# Altium integrated library TI Power Management Linear Regulator Single Channel LDO (0-350mA).IntLib: 1648 symbols (part 54 of 66)
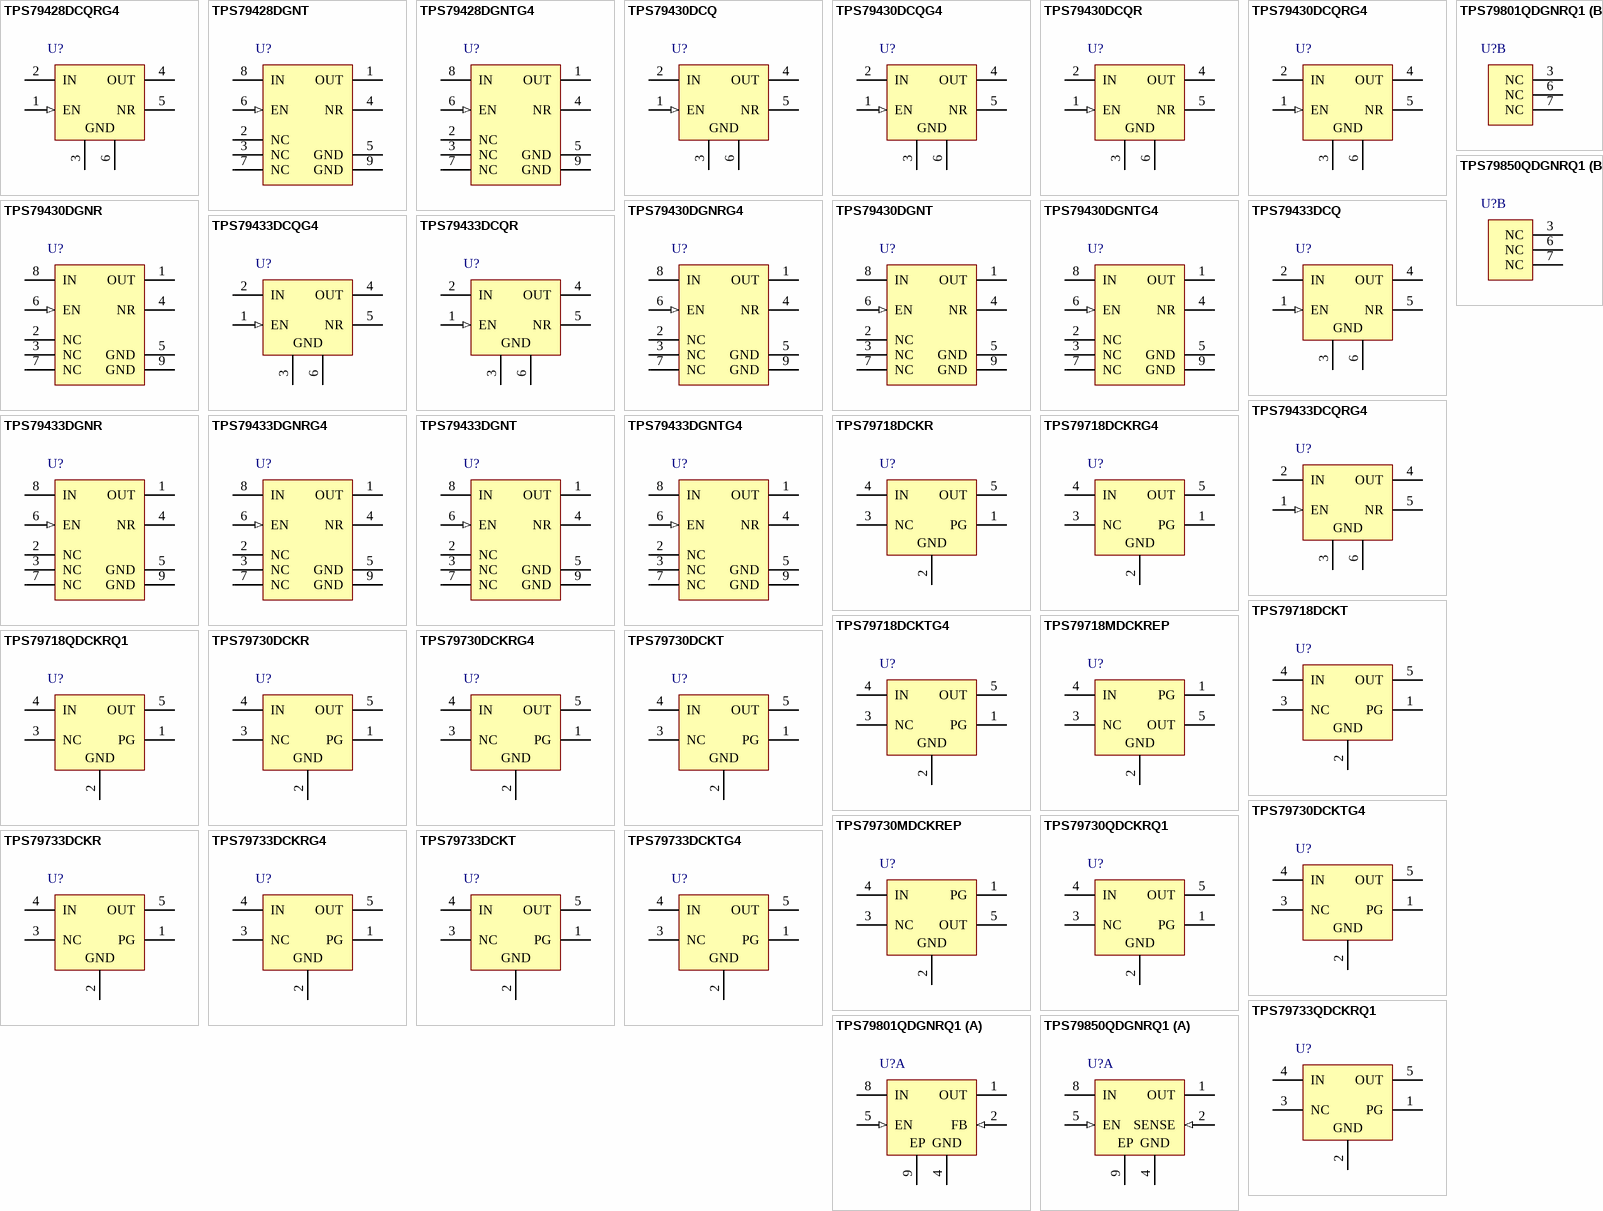
[diagram p95: symbols TPS79428DCQRG4 to TPS79850QDGNRQ1]

## TPS79430DCQR
designator U?
Single Output High PSRR LDO, 250 mA, Fixed 3 V Output, 2.7 to 5.5 V Input, 6-pin SOT-223 (DCQ), -40 to 85 degC, Green (RoHS & no Sb/Br); Manufacturer: Texas Instruments; PartNumber: TPS79430DCQR; Accuracy(%): 3; Iout(Max)(A): 0.25; Iq(Typ)(mA): 0.26; SubFamily: Single Channel LDO; Vdo(Typ)(mV): 155; Vin(Max)(V): 5.5; Vin(Min)(V): 2.7; DatasheetVersion: SLVS349E; PackageVersion: 4202109/D; PackageReference: DCQ6; PackageDescription: 6-Pin Plastic Small Outline, Body 3.5 x 6.5 mm, Pitch 1.27 mm; Supplier 1: Digi-Key; Supplier Part Number 1: 296-14435-2-ND; Supplier 2: Digi-Key; Supplier Part Number 2: 296-14435-1-ND; Supplier 3: Digi-Key; Supplier Part Number 3: 296-14435-6-ND; Supplier 4: Mouser; Supplier Part Number 4: 595-TPS79430DCQR; Eco-Plan: Green (RoHS & no Sb/Br); Fixed Output Options(V): 3; Vout Adj(Max)(V): 3; Vout Adj(Min)(V): 3; Mounting Technology: Surface Mount; ComponentLink1Description: Manufacturer URL; ComponentLink1URL: http://www.ti.com/; ComponentLink2Description: Datasheet; ComponentLink2URL: http://www.ti.com/general/docs/lit/getliterature.tsp?genericPartNumber=TPS79430&fileType=pdf; ComponentLink3Description: Package Specification; ComponentLink3URL: http://www.ti.com/litv/pdf/mpds098c
footprint TI-DCQ6_N (SOT223, 6-Leads, Body 6.5x3.5mm, Pitch 1.27mm, IPC Medium Density)
footprint TI-DCQ6_L (SOT223, 6-Leads, Body 6.5x3.5mm, Pitch 1.27mm, IPC High Density)
footprint TI-DCQ6_M (SOT223, 6-Leads, Body 6.5x3.5mm, Pitch 1.27mm, IPC Low Density)
pins: 1 EN (in) "The EN terminal is an input that enables or shuts down the device. When EN is a logic high, the device is enabled. When the device is a logic low, the device is in shutdown mode.", 2 IN (power) "Unregulated input to the device.", 3 GND (power) "Regulator ground", 4 OUT (power) "Regulator output", 5 NR "Connecting an external capacitor to this pin bypasses noise generated by the internal bandgap, which improves power-supply rejection and reduces output noise.", 6 GND (power) "Regulator ground"

## TPS79430DCQRG4
designator U?
Single Output High PSRR LDO, 250 mA, Fixed 3 V Output, 2.7 to 5.5 V Input, 6-pin SOT-223 (DCQ), -40 to 85 degC, Green (RoHS & no Sb/Br); Manufacturer: Texas Instruments; PartNumber: TPS79430DCQRG4; Accuracy(%): 3; Iout(Max)(A): 0.25; Iq(Typ)(mA): 0.26; SubFamily: Single Channel LDO; Vdo(Typ)(mV): 155; Vin(Max)(V): 5.5; Vin(Min)(V): 2.7; DatasheetVersion: SLVS349E; PackageVersion: 4202109/D; PackageReference: DCQ6; PackageDescription: 6-Pin Plastic Small Outline, Body 3.5 x 6.5 mm, Pitch 1.27 mm; Supplier 1: Digi-Key; Supplier Part Number 1: TPS79430DCQRG4-ND; Supplier 2: Newark; Supplier Part Number 2: 34M0219; Supplier 3: Mouser; Supplier Part Number 3: 595-TPS79430DCQRG4; Eco-Plan: Green (RoHS & no Sb/Br); Fixed Output Options(V): 3; Vout Adj(Max)(V): 3; Vout Adj(Min)(V): 3; Mounting Technology: Surface Mount; ComponentLink1Description: Manufacturer URL; ComponentLink1URL: http://www.ti.com/; ComponentLink2Description: Datasheet; ComponentLink2URL: http://www.ti.com/general/docs/lit/getliterature.tsp?genericPartNumber=TPS79430&fileType=pdf; ComponentLink3Description: Package Specification; ComponentLink3URL: http://www.ti.com/litv/pdf/mpds098c
footprint TI-DCQ6_N (SOT223, 6-Leads, Body 6.5x3.5mm, Pitch 1.27mm, IPC Medium Density)
footprint TI-DCQ6_L (SOT223, 6-Leads, Body 6.5x3.5mm, Pitch 1.27mm, IPC High Density)
footprint TI-DCQ6_M (SOT223, 6-Leads, Body 6.5x3.5mm, Pitch 1.27mm, IPC Low Density)
pins: 1 EN (in) "The EN terminal is an input that enables or shuts down the device. When EN is a logic high, the device is enabled. When the device is a logic low, the device is in shutdown mode.", 2 IN (power) "Unregulated input to the device.", 3 GND (power) "Regulator ground", 4 OUT (power) "Regulator output", 5 NR "Connecting an external capacitor to this pin bypasses noise generated by the internal bandgap, which improves power-supply rejection and reduces output noise.", 6 GND (power) "Regulator ground"

## TPS79430DGNR
designator U?
Single Output High PSRR LDO, 250 mA, Fixed 3 V Output, 2.7 to 5.5 V Input, 8-pin MSOP (DGN), -40 to 85 degC, Green (RoHS & no Sb/Br); Manufacturer: Texas Instruments; PartNumber: TPS79430DGNR; Accuracy(%): 3; Iout(Max)(A): 0.25; Iq(Typ)(mA): 0.26; SubFamily: Single Channel LDO; Vdo(Typ)(mV): 155; Vin(Max)(V): 5.5; Vin(Min)(V): 2.7; DatasheetVersion: SLVS349E; PackageVersion: 4073271/F; PackageReference: DGN8-1760X1425TP; PackageDescription: 8-pin Plastic Small Outline, Body 3 x 3 mm, Pitch 0.65 mm; Supplier 1: Digi-Key; Supplier Part Number 1: 296-13529-2-ND; Supplier 2: Digi-Key; Supplier Part Number 2: 296-13529-1-ND; Supplier 3: Digi-Key; Supplier Part Number 3: 296-13529-6-ND; Supplier 4: Mouser; Supplier Part Number 4: 595-TPS79430DGNR; Eco-Plan: Green (RoHS & no Sb/Br); Fixed Output Options(V): 3; Vout Adj(Max)(V): 3; Vout Adj(Min)(V): 3; Mounting Technology: Surface Mount; Code_JEDEC: MO-187; ComponentLink1Description: Manufacturer URL; ComponentLink1URL: http://www.ti.com/; ComponentLink2Description: Datasheet; ComponentLink2URL: http://www.ti.com/general/docs/lit/getliterature.tsp?genericPartNumber=TPS79430&fileType=pdf; ComponentLink3Description: Package Specification; ComponentLink3URL: http://www.ti.com/litv/pdf/mpds046e
footprint TI-DGN8-1760X1425TP_N (SOIC, 8-Leads, Body 3x3mm, Pitch 0.65mm, Thermal Pad 1.76x1.425mm, IPC Medium Density)
footprint TI-DGN8-1760X1425TP_L (SOIC, 8-Leads, Body 3x3mm, Pitch 0.65mm, Thermal Pad 1.76x1.425mm, IPC High Density)
footprint TI-DGN8-1760X1425TP_M (SOIC, 8-Leads, Body 3x3mm, Pitch 0.65mm, Thermal Pad 1.76x1.425mm, IPC Low Density)
pins: 1 OUT (power) "Regulator output", 2 NC "No internal connection.", 3 NC "No internal connection.", 4 NR "Connecting an external capacitor to this pin bypasses noise generated by the internal bandgap, which improves power-supply rejection and reduces output noise.", 5 GND (power) "Regulator ground", 6 EN (in) "The EN terminal is an input that enables or shuts down the device. When EN is a logic high, the device is enabled. When the device is a logic low, the device is in shutdown mode.", 7 NC "No internal connection.", 8 IN (power) "Unregulated input to the device.", 9 GND (power) "Regulator ground"

## TPS79430DGNRG4
designator U?
Single Output High PSRR LDO, 250 mA, Fixed 3 V Output, 2.7 to 5.5 V Input, 8-pin MSOP (DGN), -40 to 85 degC, Green (RoHS & no Sb/Br); Manufacturer: Texas Instruments; PartNumber: TPS79430DGNRG4; Accuracy(%): 3; Iout(Max)(A): 0.25; Iq(Typ)(mA): 0.26; SubFamily: Single Channel LDO; Vdo(Typ)(mV): 155; Vin(Max)(V): 5.5; Vin(Min)(V): 2.7; DatasheetVersion: SLVS349E; PackageVersion: 4073271/F; PackageReference: DGN8-1760X1425TP; PackageDescription: 8-pin Plastic Small Outline, Body 3 x 3 mm, Pitch 0.65 mm; Supplier 1: Digi-Key; Supplier Part Number 1: TPS79430DGNRG4-ND; Supplier 2: Mouser; Supplier Part Number 2: 595-TPS79430DGNRG4; Eco-Plan: Green (RoHS & no Sb/Br); Fixed Output Options(V): 3; Vout Adj(Max)(V): 3; Vout Adj(Min)(V): 3; Mounting Technology: Surface Mount; Code_JEDEC: MO-187; ComponentLink1Description: Manufacturer URL; ComponentLink1URL: http://www.ti.com/; ComponentLink2Description: Datasheet; ComponentLink2URL: http://www.ti.com/general/docs/lit/getliterature.tsp?genericPartNumber=TPS79430&fileType=pdf; ComponentLink3Description: Package Specification; ComponentLink3URL: http://www.ti.com/litv/pdf/mpds046e
footprint TI-DGN8-1760X1425TP_N (SOIC, 8-Leads, Body 3x3mm, Pitch 0.65mm, Thermal Pad 1.76x1.425mm, IPC Medium Density)
footprint TI-DGN8-1760X1425TP_L (SOIC, 8-Leads, Body 3x3mm, Pitch 0.65mm, Thermal Pad 1.76x1.425mm, IPC High Density)
footprint TI-DGN8-1760X1425TP_M (SOIC, 8-Leads, Body 3x3mm, Pitch 0.65mm, Thermal Pad 1.76x1.425mm, IPC Low Density)
pins: 1 OUT (power) "Regulator output", 2 NC "No internal connection.", 3 NC "No internal connection.", 4 NR "Connecting an external capacitor to this pin bypasses noise generated by the internal bandgap, which improves power-supply rejection and reduces output noise.", 5 GND (power) "Regulator ground", 6 EN (in) "The EN terminal is an input that enables or shuts down the device. When EN is a logic high, the device is enabled. When the device is a logic low, the device is in shutdown mode.", 7 NC "No internal connection.", 8 IN (power) "Unregulated input to the device.", 9 GND (power) "Regulator ground"

## TPS79430DGNT
designator U?
Single Output High PSRR LDO, 250 mA, Fixed 3 V Output, 2.7 to 5.5 V Input, 8-pin MSOP (DGN), -40 to 85 degC, Green (RoHS & no Sb/Br); Manufacturer: Texas Instruments; PartNumber: TPS79430DGNT; Accuracy(%): 3; Iout(Max)(A): 0.25; Iq(Typ)(mA): 0.26; SubFamily: Single Channel LDO; Vdo(Typ)(mV): 155; Vin(Max)(V): 5.5; Vin(Min)(V): 2.7; DatasheetVersion: SLVS349E; PackageVersion: 4073271/F; PackageReference: DGN8-1760X1425TP; PackageDescription: 8-pin Plastic Small Outline, Body 3 x 3 mm, Pitch 0.65 mm; Supplier 1: Digi-Key; Supplier Part Number 1: 296-14436-2-ND; Supplier 2: Digi-Key; Supplier Part Number 2: 296-14436-1-ND; Supplier 3: Digi-Key; Supplier Part Number 3: 296-14436-6-ND; Supplier 4: Mouser; Supplier Part Number 4: 595-TPS79430DGNT; Eco-Plan: Green (RoHS & no Sb/Br); Fixed Output Options(V): 3; Vout Adj(Max)(V): 3; Vout Adj(Min)(V): 3; Mounting Technology: Surface Mount; Code_JEDEC: MO-187; ComponentLink1Description: Manufacturer URL; ComponentLink1URL: http://www.ti.com/; ComponentLink2Description: Datasheet; ComponentLink2URL: http://www.ti.com/general/docs/lit/getliterature.tsp?genericPartNumber=TPS79430&fileType=pdf; ComponentLink3Description: Package Specification; ComponentLink3URL: http://www.ti.com/litv/pdf/mpds046e
footprint TI-DGN8-1760X1425TP_N (SOIC, 8-Leads, Body 3x3mm, Pitch 0.65mm, Thermal Pad 1.76x1.425mm, IPC Medium Density)
footprint TI-DGN8-1760X1425TP_L (SOIC, 8-Leads, Body 3x3mm, Pitch 0.65mm, Thermal Pad 1.76x1.425mm, IPC High Density)
footprint TI-DGN8-1760X1425TP_M (SOIC, 8-Leads, Body 3x3mm, Pitch 0.65mm, Thermal Pad 1.76x1.425mm, IPC Low Density)
pins: 1 OUT (power) "Regulator output", 2 NC "No internal connection.", 3 NC "No internal connection.", 4 NR "Connecting an external capacitor to this pin bypasses noise generated by the internal bandgap, which improves power-supply rejection and reduces output noise.", 5 GND (power) "Regulator ground", 6 EN (in) "The EN terminal is an input that enables or shuts down the device. When EN is a logic high, the device is enabled. When the device is a logic low, the device is in shutdown mode.", 7 NC "No internal connection.", 8 IN (power) "Unregulated input to the device.", 9 GND (power) "Regulator ground"

## TPS79430DGNTG4
designator U?
Single Output High PSRR LDO, 250 mA, Fixed 3 V Output, 2.7 to 5.5 V Input, 8-pin MSOP (DGN), -40 to 85 degC, Green (RoHS & no Sb/Br); Manufacturer: Texas Instruments; PartNumber: TPS79430DGNTG4; Accuracy(%): 3; Iout(Max)(A): 0.25; Iq(Typ)(mA): 0.26; SubFamily: Single Channel LDO; Vdo(Typ)(mV): 155; Vin(Max)(V): 5.5; Vin(Min)(V): 2.7; DatasheetVersion: SLVS349E; PackageVersion: 4073271/F; PackageReference: DGN8-1760X1425TP; PackageDescription: 8-pin Plastic Small Outline, Body 3 x 3 mm, Pitch 0.65 mm; Supplier 1: Digi-Key; Supplier Part Number 1: TPS79430DGNTG4-ND; Supplier 2: Mouser; Supplier Part Number 2: 595-TPS79430DGNTG4; Eco-Plan: Green (RoHS & no Sb/Br); Fixed Output Options(V): 3; Vout Adj(Max)(V): 3; Vout Adj(Min)(V): 3; Mounting Technology: Surface Mount; Code_JEDEC: MO-187; ComponentLink1Description: Manufacturer URL; ComponentLink1URL: http://www.ti.com/; ComponentLink2Description: Datasheet; ComponentLink2URL: http://www.ti.com/general/docs/lit/getliterature.tsp?genericPartNumber=TPS79430&fileType=pdf; ComponentLink3Description: Package Specification; ComponentLink3URL: http://www.ti.com/litv/pdf/mpds046e
footprint TI-DGN8-1760X1425TP_N (SOIC, 8-Leads, Body 3x3mm, Pitch 0.65mm, Thermal Pad 1.76x1.425mm, IPC Medium Density)
footprint TI-DGN8-1760X1425TP_L (SOIC, 8-Leads, Body 3x3mm, Pitch 0.65mm, Thermal Pad 1.76x1.425mm, IPC High Density)
footprint TI-DGN8-1760X1425TP_M (SOIC, 8-Leads, Body 3x3mm, Pitch 0.65mm, Thermal Pad 1.76x1.425mm, IPC Low Density)
pins: 1 OUT (power) "Regulator output", 2 NC "No internal connection.", 3 NC "No internal connection.", 4 NR "Connecting an external capacitor to this pin bypasses noise generated by the internal bandgap, which improves power-supply rejection and reduces output noise.", 5 GND (power) "Regulator ground", 6 EN (in) "The EN terminal is an input that enables or shuts down the device. When EN is a logic high, the device is enabled. When the device is a logic low, the device is in shutdown mode.", 7 NC "No internal connection.", 8 IN (power) "Unregulated input to the device.", 9 GND (power) "Regulator ground"

## TPS79433DCQ
designator U?
Single Output High PSRR LDO, 250 mA, Fixed 3.3 V Output, 2.7 to 5.5 V Input, 6-pin SOT-223 (DCQ), -40 to 85 degC, Green (RoHS & no Sb/Br); Manufacturer: Texas Instruments; PartNumber: TPS79433DCQ; Accuracy(%): 3; Iout(Max)(A): 0.25; Iq(Typ)(mA): 0.26; Rating: Catalog; SubFamily: Single Channel LDO; Vdo(Typ)(mV): 145; Vin(Max)(V): 5.5; Vin(Min)(V): 2.7; Vout Adj(Max)(V): 3.3; DatasheetVersion: SLVS349E; PackageVersion: 4202109/D; PackageReference: DCQ6; PackageDescription: 6-Pin Plastic Small Outline, Body 3.5 x 6.5 mm, Pitch 1.27 mm; Supplier 1: Digi-Key; Supplier Part Number 1: 296-34653-5-ND; Supplier 2: Newark; Supplier Part Number 2: 32H6601; Supplier 3: Mouser; Supplier Part Number 3: 595-TPS79433DCQ; Eco-Plan: Green (RoHS & no Sb/Br); Vout Adj(Min)(V): 3.3; Mounting Technology: Surface Mount; ComponentLink1Description: Manufacturer URL; ComponentLink1URL: http://www.ti.com/; ComponentLink2Description: Datasheet; ComponentLink2URL: http://www.ti.com/general/docs/lit/getliterature.tsp?genericPartNumber=TPS79433&fileType=pdf; ComponentLink3Description: Package Specification; ComponentLink3URL: http://www.ti.com/litv/pdf/mpds098c
footprint TI-DCQ6_N (SOT223, 6-Leads, Body 6.5x3.5mm, Pitch 1.27mm, IPC Medium Density)
footprint TI-DCQ6_L (SOT223, 6-Leads, Body 6.5x3.5mm, Pitch 1.27mm, IPC High Density)
footprint TI-DCQ6_M (SOT223, 6-Leads, Body 6.5x3.5mm, Pitch 1.27mm, IPC Low Density)
pins: 1 EN (in) "The EN terminal is an input that enables or shuts down the device. When EN is a logic high, the device is enabled. When the device is a logic low, the device is in shutdown mode.", 2 IN (power) "Unregulated input to the device.", 3 GND (power) "Regulator ground", 4 OUT (power) "Regulator output", 5 NR "Connecting an external capacitor to this pin bypasses noise generated by the internal bandgap, which improves power-supply rejection and reduces output noise.", 6 GND (power) "Regulator ground"

## TPS79433DCQG4
designator U?
Single Output High PSRR LDO, 250 mA, Fixed 3.3 V Output, 2.7 to 5.5 V Input, 6-pin SOT-223 (DCQ), -40 to 85 degC, Green (RoHS & no Sb/Br); Manufacturer: Texas Instruments; PartNumber: TPS79433DCQG4; Accuracy(%): 3; Iout(Max)(A): 0.25; Iq(Typ)(mA): 0.26; Rating: Catalog; SubFamily: Single Channel LDO; Vdo(Typ)(mV): 145; Vin(Max)(V): 5.5; Vin(Min)(V): 2.7; Vout Adj(Max)(V): 3.3; DatasheetVersion: SLVS349E; PackageVersion: 4202109/D; PackageReference: DCQ6; PackageDescription: 6-Pin Plastic Small Outline, Body 3.5 x 6.5 mm, Pitch 1.27 mm; Supplier 1: Digi-Key; Supplier Part Number 1: TPS79433DCQG4-ND; Supplier 2: Mouser; Supplier Part Number 2: 595-TPS79433DCQG4; Eco-Plan: Green (RoHS & no Sb/Br); Vout Adj(Min)(V): 3.3; Mounting Technology: Surface Mount; ComponentLink1Description: Manufacturer URL; ComponentLink1URL: http://www.ti.com/; ComponentLink2Description: Datasheet; ComponentLink2URL: http://www.ti.com/general/docs/lit/getliterature.tsp?genericPartNumber=TPS79433&fileType=pdf; ComponentLink3Description: Package Specification; ComponentLink3URL: http://www.ti.com/litv/pdf/mpds098c
footprint TI-DCQ6_N (SOT223, 6-Leads, Body 6.5x3.5mm, Pitch 1.27mm, IPC Medium Density)
footprint TI-DCQ6_L (SOT223, 6-Leads, Body 6.5x3.5mm, Pitch 1.27mm, IPC High Density)
footprint TI-DCQ6_M (SOT223, 6-Leads, Body 6.5x3.5mm, Pitch 1.27mm, IPC Low Density)
pins: 1 EN (in) "The EN terminal is an input that enables or shuts down the device. When EN is a logic high, the device is enabled. When the device is a logic low, the device is in shutdown mode.", 2 IN (power) "Unregulated input to the device.", 3 GND (power) "Regulator ground", 4 OUT (power) "Regulator output", 5 NR "Connecting an external capacitor to this pin bypasses noise generated by the internal bandgap, which improves power-supply rejection and reduces output noise.", 6 GND (power) "Regulator ground"

## TPS79433DCQR
designator U?
Single Output High PSRR LDO, 250 mA, Fixed 3.3 V Output, 2.7 to 5.5 V Input, 6-pin SOT-223 (DCQ), -40 to 85 degC, Green (RoHS & no Sb/Br); Manufacturer: Texas Instruments; PartNumber: TPS79433DCQR; Accuracy(%): 3; Iout(Max)(A): 0.25; Iq(Typ)(mA): 0.26; Rating: Catalog; SubFamily: Single Channel LDO; Vdo(Typ)(mV): 145; Vin(Max)(V): 5.5; Vin(Min)(V): 2.7; Vout Adj(Max)(V): 3.3; DatasheetVersion: SLVS349E; PackageVersion: 4202109/D; PackageReference: DCQ6; PackageDescription: 6-Pin Plastic Small Outline, Body 3.5 x 6.5 mm, Pitch 1.27 mm; Supplier 1: Digi-Key; Supplier Part Number 1: 296-14437-2-ND; Supplier 2: Digi-Key; Supplier Part Number 2: 296-14437-1-ND; Supplier 3: Digi-Key; Supplier Part Number 3: 296-14437-6-ND; Supplier 4: Newark; Supplier Part Number 4: 32H6602; Supplier 5: Mouser; Supplier Part Number 5: 595-TPS79433DCQR; Eco-Plan: Green (RoHS & no Sb/Br); Vout Adj(Min)(V): 3.3; Mounting Technology: Surface Mount; ComponentLink1Description: Manufacturer URL; ComponentLink1URL: http://www.ti.com/; ComponentLink2Description: Datasheet; ComponentLink2URL: http://www.ti.com/general/docs/lit/getliterature.tsp?genericPartNumber=TPS79433&fileType=pdf; ComponentLink3Description: Package Specification; ComponentLink3URL: http://www.ti.com/litv/pdf/mpds098c
footprint TI-DCQ6_N (SOT223, 6-Leads, Body 6.5x3.5mm, Pitch 1.27mm, IPC Medium Density)
footprint TI-DCQ6_L (SOT223, 6-Leads, Body 6.5x3.5mm, Pitch 1.27mm, IPC High Density)
footprint TI-DCQ6_M (SOT223, 6-Leads, Body 6.5x3.5mm, Pitch 1.27mm, IPC Low Density)
pins: 1 EN (in) "The EN terminal is an input that enables or shuts down the device. When EN is a logic high, the device is enabled. When the device is a logic low, the device is in shutdown mode.", 2 IN (power) "Unregulated input to the device.", 3 GND (power) "Regulator ground", 4 OUT (power) "Regulator output", 5 NR "Connecting an external capacitor to this pin bypasses noise generated by the internal bandgap, which improves power-supply rejection and reduces output noise.", 6 GND (power) "Regulator ground"

## TPS79433DCQRG4
designator U?
Single Output High PSRR LDO, 250 mA, Fixed 3.3 V Output, 2.7 to 5.5 V Input, 6-pin SOT-223 (DCQ), -40 to 85 degC, Green (RoHS & no Sb/Br); Manufacturer: Texas Instruments; PartNumber: TPS79433DCQRG4; Accuracy(%): 3; Iout(Max)(A): 0.25; Iq(Typ)(mA): 0.26; Rating: Catalog; SubFamily: Single Channel LDO; Vdo(Typ)(mV): 145; Vin(Max)(V): 5.5; Vin(Min)(V): 2.7; Vout Adj(Max)(V): 3.3; DatasheetVersion: SLVS349E; PackageVersion: 4202109/D; PackageReference: DCQ6; PackageDescription: 6-Pin Plastic Small Outline, Body 3.5 x 6.5 mm, Pitch 1.27 mm; Supplier 1: Digi-Key; Supplier Part Number 1: TPS79433DCQRG4-ND; Supplier 2: Mouser; Supplier Part Number 2: 595-TPS79433DCQRG4; Eco-Plan: Green (RoHS & no Sb/Br); Vout Adj(Min)(V): 3.3; Mounting Technology: Surface Mount; ComponentLink1Description: Manufacturer URL; ComponentLink1URL: http://www.ti.com/; ComponentLink2Description: Datasheet; ComponentLink2URL: http://www.ti.com/general/docs/lit/getliterature.tsp?genericPartNumber=TPS79433&fileType=pdf; ComponentLink3Description: Package Specification; ComponentLink3URL: http://www.ti.com/litv/pdf/mpds098c
footprint TI-DCQ6_N (SOT223, 6-Leads, Body 6.5x3.5mm, Pitch 1.27mm, IPC Medium Density)
footprint TI-DCQ6_L (SOT223, 6-Leads, Body 6.5x3.5mm, Pitch 1.27mm, IPC High Density)
footprint TI-DCQ6_M (SOT223, 6-Leads, Body 6.5x3.5mm, Pitch 1.27mm, IPC Low Density)
pins: 1 EN (in) "The EN terminal is an input that enables or shuts down the device. When EN is a logic high, the device is enabled. When the device is a logic low, the device is in shutdown mode.", 2 IN (power) "Unregulated input to the device.", 3 GND (power) "Regulator ground", 4 OUT (power) "Regulator output", 5 NR "Connecting an external capacitor to this pin bypasses noise generated by the internal bandgap, which improves power-supply rejection and reduces output noise.", 6 GND (power) "Regulator ground"

## TPS79433DGNR
designator U?
Single Output High PSRR LDO, 250 mA, Fixed 3.3 V Output, 2.7 to 5.5 V Input, 8-pin MSOP (DGN), -40 to 85 degC, Green (RoHS & no Sb/Br); Manufacturer: Texas Instruments; PartNumber: TPS79433DGNR; Accuracy(%): 3; Iout(Max)(A): 0.25; Iq(Typ)(mA): 0.26; Rating: Catalog; SubFamily: Single Channel LDO; Vdo(Typ)(mV): 145; Vin(Max)(V): 5.5; Vin(Min)(V): 2.7; Vout Adj(Max)(V): 3.3; DatasheetVersion: SLVS349E; PackageVersion: 4073271/F; PackageReference: DGN8-1760X1425TP; PackageDescription: 8-pin Plastic Small Outline, Body 3 x 3 mm, Pitch 0.65 mm; Supplier 1: Digi-Key; Supplier Part Number 1: 296-13530-2-ND; Supplier 2: Digi-Key; Supplier Part Number 2: 296-13530-1-ND; Supplier 3: Digi-Key; Supplier Part Number 3: 296-13530-6-ND; Supplier 4: Newark; Supplier Part Number 4: 77C1371; Supplier 5: Mouser; Supplier Part Number 5: 595-TPS79433DGNR; Eco-Plan: Green (RoHS & no Sb/Br); Vout Adj(Min)(V): 3.3; Mounting Technology: Surface Mount; Code_JEDEC: MO-187; ComponentLink1Description: Manufacturer URL; ComponentLink1URL: http://www.ti.com/; ComponentLink2Description: Datasheet; ComponentLink2URL: http://www.ti.com/general/docs/lit/getliterature.tsp?genericPartNumber=TPS79433&fileType=pdf; ComponentLink3Description: Package Specification; ComponentLink3URL: http://www.ti.com/litv/pdf/mpds046e
footprint TI-DGN8-1760X1425TP_N (SOIC, 8-Leads, Body 3x3mm, Pitch 0.65mm, Thermal Pad 1.76x1.425mm, IPC Medium Density)
footprint TI-DGN8-1760X1425TP_L (SOIC, 8-Leads, Body 3x3mm, Pitch 0.65mm, Thermal Pad 1.76x1.425mm, IPC High Density)
footprint TI-DGN8-1760X1425TP_M (SOIC, 8-Leads, Body 3x3mm, Pitch 0.65mm, Thermal Pad 1.76x1.425mm, IPC Low Density)
pins: 1 OUT (power) "Regulator output", 2 NC "No internal connection.", 3 NC "No internal connection.", 4 NR "Connecting an external capacitor to this pin bypasses noise generated by the internal bandgap, which improves power-supply rejection and reduces output noise.", 5 GND (power) "Regulator ground", 6 EN (in) "The EN terminal is an input that enables or shuts down the device. When EN is a logic high, the device is enabled. When the device is a logic low, the device is in shutdown mode.", 7 NC "No internal connection.", 8 IN (power) "Unregulated input to the device.", 9 GND (power) "Regulator ground"

## TPS79433DGNRG4
designator U?
Single Output High PSRR LDO, 250 mA, Fixed 3.3 V Output, 2.7 to 5.5 V Input, 8-pin MSOP (DGN), -40 to 85 degC, Green (RoHS & no Sb/Br); Manufacturer: Texas Instruments; PartNumber: TPS79433DGNRG4; Accuracy(%): 3; Iout(Max)(A): 0.25; Iq(Typ)(mA): 0.26; Rating: Catalog; SubFamily: Single Channel LDO; Vdo(Typ)(mV): 145; Vin(Max)(V): 5.5; Vin(Min)(V): 2.7; Vout Adj(Max)(V): 3.3; DatasheetVersion: SLVS349E; PackageVersion: 4073271/F; PackageReference: DGN8-1760X1425TP; PackageDescription: 8-pin Plastic Small Outline, Body 3 x 3 mm, Pitch 0.65 mm; Supplier 1: Digi-Key; Supplier Part Number 1: TPS79433DGNRG4-ND; Supplier 2: Newark; Supplier Part Number 2: 24K6218; Supplier 3: Mouser; Supplier Part Number 3: 595-TPS79433DGNRG4; Eco-Plan: Green (RoHS & no Sb/Br); Vout Adj(Min)(V): 3.3; Mounting Technology: Surface Mount; Code_JEDEC: MO-187; ComponentLink1Description: Manufacturer URL; ComponentLink1URL: http://www.ti.com/; ComponentLink2Description: Datasheet; ComponentLink2URL: http://www.ti.com/general/docs/lit/getliterature.tsp?genericPartNumber=TPS79433&fileType=pdf; ComponentLink3Description: Package Specification; ComponentLink3URL: http://www.ti.com/litv/pdf/mpds046e
footprint TI-DGN8-1760X1425TP_N (SOIC, 8-Leads, Body 3x3mm, Pitch 0.65mm, Thermal Pad 1.76x1.425mm, IPC Medium Density)
footprint TI-DGN8-1760X1425TP_L (SOIC, 8-Leads, Body 3x3mm, Pitch 0.65mm, Thermal Pad 1.76x1.425mm, IPC High Density)
footprint TI-DGN8-1760X1425TP_M (SOIC, 8-Leads, Body 3x3mm, Pitch 0.65mm, Thermal Pad 1.76x1.425mm, IPC Low Density)
pins: 1 OUT (power) "Regulator output", 2 NC "No internal connection.", 3 NC "No internal connection.", 4 NR "Connecting an external capacitor to this pin bypasses noise generated by the internal bandgap, which improves power-supply rejection and reduces output noise.", 5 GND (power) "Regulator ground", 6 EN (in) "The EN terminal is an input that enables or shuts down the device. When EN is a logic high, the device is enabled. When the device is a logic low, the device is in shutdown mode.", 7 NC "No internal connection.", 8 IN (power) "Unregulated input to the device.", 9 GND (power) "Regulator ground"

## TPS79433DGNT
designator U?
Single Output High PSRR LDO, 250 mA, Fixed 3.3 V Output, 2.7 to 5.5 V Input, 8-pin MSOP (DGN), -40 to 85 degC, Green (RoHS & no Sb/Br); Manufacturer: Texas Instruments; PartNumber: TPS79433DGNT; Accuracy(%): 3; Iout(Max)(A): 0.25; Iq(Typ)(mA): 0.26; Rating: Catalog; SubFamily: Single Channel LDO; Vdo(Typ)(mV): 145; Vin(Max)(V): 5.5; Vin(Min)(V): 2.7; Vout Adj(Max)(V): 3.3; DatasheetVersion: SLVS349E; PackageVersion: 4073271/F; PackageReference: DGN8-1760X1425TP; PackageDescription: 8-pin Plastic Small Outline, Body 3 x 3 mm, Pitch 0.65 mm; Supplier 1: Digi-Key; Supplier Part Number 1: 296-14438-2-ND; Supplier 2: Digi-Key; Supplier Part Number 2: 296-14438-1-ND; Supplier 3: Digi-Key; Supplier Part Number 3: 296-14438-6-ND; Supplier 4: Farnell; Supplier Part Number 4: 1135412RL; Supplier 5: Farnell; Supplier Part Number 5: 1135412; Supplier 6: Newark; Supplier Part Number 6: 93K0937; Supplier 7: Mouser; Supplier Part Number 7: 595-TPS79433DGNT; Eco-Plan: Green (RoHS & no Sb/Br); Vout Adj(Min)(V): 3.3; Mounting Technology: Surface Mount; Code_JEDEC: MO-187; ComponentLink1Description: Manufacturer URL; ComponentLink1URL: http://www.ti.com/; ComponentLink2Description: Datasheet; ComponentLink2URL: http://www.ti.com/general/docs/lit/getliterature.tsp?genericPartNumber=TPS79433&fileType=pdf; ComponentLink3Description: Package Specification; ComponentLink3URL: http://www.ti.com/litv/pdf/mpds046e
footprint TI-DGN8-1760X1425TP_N (SOIC, 8-Leads, Body 3x3mm, Pitch 0.65mm, Thermal Pad 1.76x1.425mm, IPC Medium Density)
footprint TI-DGN8-1760X1425TP_L (SOIC, 8-Leads, Body 3x3mm, Pitch 0.65mm, Thermal Pad 1.76x1.425mm, IPC High Density)
footprint TI-DGN8-1760X1425TP_M (SOIC, 8-Leads, Body 3x3mm, Pitch 0.65mm, Thermal Pad 1.76x1.425mm, IPC Low Density)
pins: 1 OUT (power) "Regulator output", 2 NC "No internal connection.", 3 NC "No internal connection.", 4 NR "Connecting an external capacitor to this pin bypasses noise generated by the internal bandgap, which improves power-supply rejection and reduces output noise.", 5 GND (power) "Regulator ground", 6 EN (in) "The EN terminal is an input that enables or shuts down the device. When EN is a logic high, the device is enabled. When the device is a logic low, the device is in shutdown mode.", 7 NC "No internal connection.", 8 IN (power) "Unregulated input to the device.", 9 GND (power) "Regulator ground"

## TPS79433DGNTG4
designator U?
Single Output High PSRR LDO, 250 mA, Fixed 3.3 V Output, 2.7 to 5.5 V Input, 8-pin MSOP (DGN), -40 to 85 degC, Green (RoHS & no Sb/Br); Manufacturer: Texas Instruments; PartNumber: TPS79433DGNTG4; Accuracy(%): 3; Iout(Max)(A): 0.25; Iq(Typ)(mA): 0.26; Rating: Catalog; SubFamily: Single Channel LDO; Vdo(Typ)(mV): 145; Vin(Max)(V): 5.5; Vin(Min)(V): 2.7; Vout Adj(Max)(V): 3.3; DatasheetVersion: SLVS349E; PackageVersion: 4073271/F; PackageReference: DGN8-1760X1425TP; PackageDescription: 8-pin Plastic Small Outline, Body 3 x 3 mm, Pitch 0.65 mm; Supplier 1: Digi-Key; Supplier Part Number 1: TPS79433DGNTG4-ND; Supplier 2: Mouser; Supplier Part Number 2: 595-TPS79433DGNTG4; Eco-Plan: Green (RoHS & no Sb/Br); Vout Adj(Min)(V): 3.3; Mounting Technology: Surface Mount; Code_JEDEC: MO-187; ComponentLink1Description: Manufacturer URL; ComponentLink1URL: http://www.ti.com/; ComponentLink2Description: Datasheet; ComponentLink2URL: http://www.ti.com/general/docs/lit/getliterature.tsp?genericPartNumber=TPS79433&fileType=pdf; ComponentLink3Description: Package Specification; ComponentLink3URL: http://www.ti.com/litv/pdf/mpds046e
footprint TI-DGN8-1760X1425TP_N (SOIC, 8-Leads, Body 3x3mm, Pitch 0.65mm, Thermal Pad 1.76x1.425mm, IPC Medium Density)
footprint TI-DGN8-1760X1425TP_L (SOIC, 8-Leads, Body 3x3mm, Pitch 0.65mm, Thermal Pad 1.76x1.425mm, IPC High Density)
footprint TI-DGN8-1760X1425TP_M (SOIC, 8-Leads, Body 3x3mm, Pitch 0.65mm, Thermal Pad 1.76x1.425mm, IPC Low Density)
pins: 1 OUT (power) "Regulator output", 2 NC "No internal connection.", 3 NC "No internal connection.", 4 NR "Connecting an external capacitor to this pin bypasses noise generated by the internal bandgap, which improves power-supply rejection and reduces output noise.", 5 GND (power) "Regulator ground", 6 EN (in) "The EN terminal is an input that enables or shuts down the device. When EN is a logic high, the device is enabled. When the device is a logic low, the device is in shutdown mode.", 7 NC "No internal connection.", 8 IN (power) "Unregulated input to the device.", 9 GND (power) "Regulator ground"

## TPS79718DCKR
designator U?
Single Output LDO, 50 mA, Fixed 1.8 V Output, 1.8 to 5.5 V Input, with Low IQ, 5-pin SC70 (DCK), -40 to 85 degC, Green (RoHS & no Sb/Br); Manufacturer: Texas Instruments; PartNumber: TPS79718DCKR; Accuracy(%): 4; Fixed Output Options(V): 1.8; Iout(Max)(A): 0.05; Iq(Typ)(mA): 0.001; Power Good: TRUE; Rating: Catalog; SubFamily: Single Channel LDO; Vdo(Typ)(mV): 105; Vin(Max)(V): 5.5; DatasheetVersion: SLVS332H; PackageVersion: 4093553-3/G; PackageReference: DCK5; PackageDescription: 5-Pin Plastic Small-Outline, Body 2 x 1.25 mm, Pitch 0.65 mm; Supplier 1: Digi-Key; Supplier Part Number 1: 296-11988-2-ND; Supplier 2: Digi-Key; Supplier Part Number 2: 296-11988-1-ND; Supplier 3: Digi-Key; Supplier Part Number 3: 296-11988-6-ND; Supplier 4: Farnell; Supplier Part Number 4: 1575753; Supplier 5: Newark; Supplier Part Number 5: 77C1372; Supplier 6: Mouser; Supplier Part Number 6: 595-TPS79718DCKR; Eco-Plan: Green (RoHS & no Sb/Br); Vin(Min)(V): 1.8; Vout Adj(Max)(V): 1.8; Vout Adj(Min)(V): 1.8; Mounting Technology: Surface Mount; Code_JEDEC: MO-203; ComponentLink1Description: Manufacturer URL; ComponentLink1URL: http://www.ti.com/; ComponentLink2Description: Datasheet; ComponentLink2URL: http://www.ti.com/general/docs/lit/getliterature.tsp?genericPartNumber=TPS79718&fileType=pdf; ComponentLink3Description: Package Specification; ComponentLink3URL: http://www.ti.com/litv/pdf/mpds025f
footprint TI-DCK5_V (SOT23, 5-Leads, Body 2x1.25mm, Pitch 0.65mm)
pins: 1 PG (hiz) "The PG terminal for the fixed voltage option devices is an open drain, active-high output that indicates the status of VO (output of the LDO). When VO exceeds approximately 90% of the regulated voltage, PG goes to a high (See Datasheet)", 2 GND (power) "Ground", 3 NC "No connection", 4 IN (power) "The IN terminal is the power supply input to the device.", 5 OUT (power) "The OUT terminal provides the regulated output voltage of the device."

## TPS79718DCKRG4
designator U?
Single Output LDO, 50 mA, Fixed 1.8 V Output, 1.8 to 5.5 V Input, with Low IQ, 5-pin SC70 (DCK), -40 to 85 degC, Green (RoHS & no Sb/Br); Manufacturer: Texas Instruments; PartNumber: TPS79718DCKRG4; Accuracy(%): 4; Fixed Output Options(V): 1.8; Iout(Max)(A): 0.05; Iq(Typ)(mA): 0.001; Power Good: TRUE; Rating: Catalog; SubFamily: Single Channel LDO; Vdo(Typ)(mV): 105; Vin(Max)(V): 5.5; DatasheetVersion: SLVS332H; PackageVersion: 4093553-3/G; PackageReference: DCK5; PackageDescription: 5-Pin Plastic Small-Outline, Body 2 x 1.25 mm, Pitch 0.65 mm; Supplier 1: Digi-Key; Supplier Part Number 1: TPS79718DCKRG4-ND; Supplier 2: Mouser; Supplier Part Number 2: 595-TPS79718DCKRG4; Eco-Plan: Green (RoHS & no Sb/Br); Vin(Min)(V): 1.8; Vout Adj(Max)(V): 1.8; Vout Adj(Min)(V): 1.8; Mounting Technology: Surface Mount; Code_JEDEC: MO-203; ComponentLink1Description: Manufacturer URL; ComponentLink1URL: http://www.ti.com/; ComponentLink2Description: Datasheet; ComponentLink2URL: http://www.ti.com/general/docs/lit/getliterature.tsp?genericPartNumber=TPS79718&fileType=pdf; ComponentLink3Description: Package Specification; ComponentLink3URL: http://www.ti.com/litv/pdf/mpds025f
footprint TI-DCK5_V (SOT23, 5-Leads, Body 2x1.25mm, Pitch 0.65mm)
pins: 1 PG (hiz) "The PG terminal for the fixed voltage option devices is an open drain, active-high output that indicates the status of VO (output of the LDO). When VO exceeds approximately 90% of the regulated voltage, PG goes to a high (See Datasheet)", 2 GND (power) "Ground", 3 NC "No connection", 4 IN (power) "The IN terminal is the power supply input to the device.", 5 OUT (power) "The OUT terminal provides the regulated output voltage of the device."

## TPS79718DCKT
designator U?
Single Output LDO, 50 mA, Fixed 1.8 V Output, 1.8 to 5.5 V Input, with Low IQ, 5-pin SC70 (DCK), -40 to 85 degC, Green (RoHS & no Sb/Br); Manufacturer: Texas Instruments; PartNumber: TPS79718DCKT; Accuracy(%): 4; Fixed Output Options(V): 1.8; Iout(Max)(A): 0.05; Iq(Typ)(mA): 0.001; Power Good: TRUE; Rating: Catalog; SubFamily: Single Channel LDO; Vdo(Typ)(mV): 105; Vin(Max)(V): 5.5; DatasheetVersion: SLVS332H; PackageVersion: 4093553-3/G; PackageReference: DCK5; PackageDescription: 5-Pin Plastic Small-Outline, Body 2 x 1.25 mm, Pitch 0.65 mm; Supplier 1: Digi-Key; Supplier Part Number 1: 296-27110-2-ND; Supplier 2: Digi-Key; Supplier Part Number 2: 296-27110-1-ND; Supplier 3: Digi-Key; Supplier Part Number 3: 296-27110-6-ND; Supplier 4: Farnell; Supplier Part Number 4: 1135377RL; Supplier 5: Farnell; Supplier Part Number 5: 1135377; Supplier 6: Newark; Supplier Part Number 6: 77C1373; Supplier 7: Mouser; Supplier Part Number 7: 595-TPS79718DCKT; Eco-Plan: Green (RoHS & no Sb/Br); Vin(Min)(V): 1.8; Vout Adj(Max)(V): 1.8; Vout Adj(Min)(V): 1.8; Mounting Technology: Surface Mount; Code_JEDEC: MO-203; ComponentLink1Description: Manufacturer URL; ComponentLink1URL: http://www.ti.com/; ComponentLink2Description: Datasheet; ComponentLink2URL: http://www.ti.com/general/docs/lit/getliterature.tsp?genericPartNumber=TPS79718&fileType=pdf; ComponentLink3Description: Package Specification; ComponentLink3URL: http://www.ti.com/litv/pdf/mpds025f
footprint TI-DCK5_V (SOT23, 5-Leads, Body 2x1.25mm, Pitch 0.65mm)
pins: 1 PG (hiz) "The PG terminal for the fixed voltage option devices is an open drain, active-high output that indicates the status of VO (output of the LDO). When VO exceeds approximately 90% of the regulated voltage, PG goes to a high (See Datasheet)", 2 GND (power) "Ground", 3 NC "No connection", 4 IN (power) "The IN terminal is the power supply input to the device.", 5 OUT (power) "The OUT terminal provides the regulated output voltage of the device."

## TPS79718DCKTG4
designator U?
Single Output LDO, 50 mA, Fixed 1.8 V Output, 1.8 to 5.5 V Input, with Low IQ, 5-pin SC70 (DCK), -40 to 85 degC, Green (RoHS & no Sb/Br); Manufacturer: Texas Instruments; PartNumber: TPS79718DCKTG4; Accuracy(%): 4; Fixed Output Options(V): 1.8; Iout(Max)(A): 0.05; Iq(Typ)(mA): 0.001; Power Good: TRUE; Rating: Catalog; SubFamily: Single Channel LDO; Vdo(Typ)(mV): 105; Vin(Max)(V): 5.5; DatasheetVersion: SLVS332H; PackageVersion: 4093553-3/G; PackageReference: DCK5; PackageDescription: 5-Pin Plastic Small-Outline, Body 2 x 1.25 mm, Pitch 0.65 mm; Supplier 1: Digi-Key; Supplier Part Number 1: TPS79718DCKTG4-ND; Supplier 2: Newark; Supplier Part Number 2: 24K6224; Supplier 3: Mouser; Supplier Part Number 3: 595-TPS79718DCKTG4; Eco-Plan: Green (RoHS & no Sb/Br); Vin(Min)(V): 1.8; Vout Adj(Max)(V): 1.8; Vout Adj(Min)(V): 1.8; Mounting Technology: Surface Mount; Code_JEDEC: MO-203; ComponentLink1Description: Manufacturer URL; ComponentLink1URL: http://www.ti.com/; ComponentLink2Description: Datasheet; ComponentLink2URL: http://www.ti.com/general/docs/lit/getliterature.tsp?genericPartNumber=TPS79718&fileType=pdf; ComponentLink3Description: Package Specification; ComponentLink3URL: http://www.ti.com/litv/pdf/mpds025f
footprint TI-DCK5_V (SOT23, 5-Leads, Body 2x1.25mm, Pitch 0.65mm)
pins: 1 PG (hiz) "The PG terminal for the fixed voltage option devices is an open drain, active-high output that indicates the status of VO (output of the LDO). When VO exceeds approximately 90% of the regulated voltage, PG goes to a high (See Datasheet)", 2 GND (power) "Ground", 3 NC "No connection", 4 IN (power) "The IN terminal is the power supply input to the device.", 5 OUT (power) "The OUT terminal provides the regulated output voltage of the device."

## TPS79718MDCKREP
designator U?
Single Output LDO, 10 mA, Fixed 1.8 V Output, 2 to 5.5 V Input, 5-pin SC70 (DCK), -55 to 125 degC, Green (RoHS & no Sb/Br); Manufacturer: Texas Instruments; PartNumber: TPS79718MDCKREP; Accuracy(%): 4; Fixed Output Options(V): 1.8; Iout(Max)(A): 0.01; Iq(Typ)(mA): 0.005; Power Good: TRUE; SubFamily: Single Channel LDO; Vdo(Typ)(mV): 400; Vin(Max)(V): 5.5; Vin(Min)(V): 2; DatasheetVersion: SGLS348A; PackageVersion: 4093553-3/G; PackageReference: DCK5; PackageDescription: 5-Pin Plastic Small-Outline, Body 2 x 1.25 mm, Pitch 0.65 mm; Supplier 1: Arrow; Supplier Part Number 1: 43718038S9464546N2415; Supplier 2: Digi-Key; Supplier Part Number 2: 296-23335-2-ND; Supplier 3: Digi-Key; Supplier Part Number 3: 296-23335-1-ND; Supplier 4: Digi-Key; Supplier Part Number 4: 296-23335-6-ND; Supplier 5: Newark; Supplier Part Number 5: 79R8615; Supplier 6: Mouser; Supplier Part Number 6: 595-TPS79718MDCKREP; Eco-Plan: Green (RoHS & no Sb/Br); Vout Adj(Max)(V): 1.8; Vout Adj(Min)(V): 1.8; Mounting Technology: Surface Mount; Code_JEDEC: MO-203; ComponentLink1Description: Manufacturer URL; ComponentLink1URL: http://www.ti.com/; ComponentLink2Description: Datasheet; ComponentLink2URL: http://www.ti.com/general/docs/lit/getliterature.tsp?genericPartNumber=TPS79718-EP&fileType=pdf; ComponentLink3Description: Package Specification; ComponentLink3URL: http://www.ti.com/litv/pdf/mpds025f
footprint TI-DCK5_V (SOT23, 5-Leads, Body 2x1.25mm, Pitch 0.65mm)
pins: 1 PG (hiz) "The PG terminal for the fixed voltage option devices is an open-drain active-high output that indicates the status of VO (output of the LDO). When VO exceeds approximately 90% of the regulated voltage, PG goes to a high (See Datasheet)", 2 GND (power) "Ground", 3 NC "No connection", 4 IN (power) "The IN terminal is the power supply input to the device.", 5 OUT (power) "The OUT terminal provides the regulated output voltage of the device."

## TPS79718QDCKRQ1
designator U?
Single Output Micro-Power LDO, 10 mA, Fixed 1.8 V Output, 1.8 to 5.5 V Input, 5-pin SC70 (DCK), -40 to 125 degC, Green (RoHS & no Sb/Br); Manufacturer: Texas Instruments; PartNumber: TPS79718QDCKRQ1; Accuracy(%): 4; Fixed Output Options(V): 1.8; Iout(Max)(A): 0.01; Iq(Typ)(mA): 0.001; Power Good: TRUE; Rating: Automotive; SubFamily: Single Channel LDO; Vdo(Typ)(mV): 110; Vin(Max)(V): 5.5; DatasheetVersion: SGLS264A; PackageVersion: 4093553-3/G; PackageReference: DCK5; PackageDescription: 5-Pin Plastic Small-Outline, Body 2 x 1.25 mm, Pitch 0.65 mm; Supplier 1: Digi-Key; Supplier Part Number 1: 296-23648-2-ND; Supplier 2: Digi-Key; Supplier Part Number 2: 296-23648-1-ND; Supplier 3: Digi-Key; Supplier Part Number 3: 296-23648-6-ND; Supplier 4: Newark; Supplier Part Number 4: 65J6938; Supplier 5: Mouser; Supplier Part Number 5: 595-TPS79718QDCKRQ1; Eco-Plan: Green (RoHS & no Sb/Br); Vin(Min)(V): 1.8; Vout Adj(Max)(V): 1.8; Vout Adj(Min)(V): 1.8; Mounting Technology: Surface Mount; Code_JEDEC: MO-203; ComponentLink1Description: Manufacturer URL; ComponentLink1URL: http://www.ti.com/; ComponentLink2Description: Datasheet; ComponentLink2URL: http://www.ti.com/general/docs/lit/getliterature.tsp?genericPartNumber=TPS79718-Q1&fileType=pdf; ComponentLink3Description: Package Specification; ComponentLink3URL: http://www.ti.com/litv/pdf/mpds025f
footprint TI-DCK5_V (SOT23, 5-Leads, Body 2x1.25mm, Pitch 0.65mm)
pins: 1 PG (hiz) "The PG terminal for the fixed voltage option devices is an open-drain active-high output that indicates the status of VO (output of the LDO). When VO exceeds approximately 90% of the regulated voltage, PG goes to a high (See Datasheet)", 2 GND (power) "Ground", 3 NC "No connection", 4 IN (power) "The IN terminal is the power supply input to the device.", 5 OUT (power) "The OUT terminal provides the regulated output voltage of the device."

## TPS79730DCKR
designator U?
Single Output LDO, 50 mA, Fixed 3 V Output, 1.8 to 5.5 V Input, with Low IQ, 5-pin SC70 (DCK), -40 to 85 degC, Green (RoHS & no Sb/Br); Manufacturer: Texas Instruments; PartNumber: TPS79730DCKR; Accuracy(%): 4; Fixed Output Options(V): 3; Iout(Max)(A): 0.05; Iq(Typ)(mA): 0.001; Power Good: TRUE; Rating: Catalog; SubFamily: Single Channel LDO; Vdo(Typ)(mV): 110; Vin(Max)(V): 5.5; Vin(Min)(V): 1.8; DatasheetVersion: SLVS332H; PackageVersion: 4093553-3/G; PackageReference: DCK5; PackageDescription: 5-Pin Plastic Small-Outline, Body 2 x 1.25 mm, Pitch 0.65 mm; Supplier 1: Digi-Key; Supplier Part Number 1: 296-11989-2-ND; Supplier 2: Digi-Key; Supplier Part Number 2: 296-11989-1-ND; Supplier 3: Digi-Key; Supplier Part Number 3: 296-11989-6-ND; Supplier 4: Farnell; Supplier Part Number 4: 1575754; Supplier 5: Newark; Supplier Part Number 5: 77C1374; Supplier 6: Mouser; Supplier Part Number 6: 595-TPS79730DCKR; Eco-Plan: Green (RoHS & no Sb/Br); Vout Adj(Max)(V): 3; Vout Adj(Min)(V): 3; Mounting Technology: Surface Mount; Code_JEDEC: MO-203; ComponentLink1Description: Manufacturer URL; ComponentLink1URL: http://www.ti.com/; ComponentLink2Description: Datasheet; ComponentLink2URL: http://www.ti.com/general/docs/lit/getliterature.tsp?genericPartNumber=TPS79730&fileType=pdf; ComponentLink3Description: Package Specification; ComponentLink3URL: http://www.ti.com/litv/pdf/mpds025f
footprint TI-DCK5_V (SOT23, 5-Leads, Body 2x1.25mm, Pitch 0.65mm)
pins: 1 PG (hiz) "The PG terminal for the fixed voltage option devices is an open drain, active-high output that indicates the status of VO (output of the LDO). When VO exceeds approximately 90% of the regulated voltage, PG goes to a high (See Datasheet)", 2 GND (power) "Ground", 3 NC "No connection", 4 IN (power) "The IN terminal is the power supply input to the device.", 5 OUT (power) "The OUT terminal provides the regulated output voltage of the device."

## TPS79730DCKRG4
designator U?
Single Output LDO, 50 mA, Fixed 3 V Output, 1.8 to 5.5 V Input, with Low IQ, 5-pin SC70 (DCK), -40 to 85 degC, Green (RoHS & no Sb/Br); Manufacturer: Texas Instruments; PartNumber: TPS79730DCKRG4; Accuracy(%): 4; Fixed Output Options(V): 3; Iout(Max)(A): 0.05; Iq(Typ)(mA): 0.001; Power Good: TRUE; Rating: Catalog; SubFamily: Single Channel LDO; Vdo(Typ)(mV): 110; Vin(Max)(V): 5.5; Vin(Min)(V): 1.8; DatasheetVersion: SLVS332H; PackageVersion: 4093553-3/G; PackageReference: DCK5; PackageDescription: 5-Pin Plastic Small-Outline, Body 2 x 1.25 mm, Pitch 0.65 mm; Supplier 1: Digi-Key; Supplier Part Number 1: TPS79730DCKRG4-ND; Supplier 2: Newark; Supplier Part Number 2: 24K6225; Supplier 3: Mouser; Supplier Part Number 3: 595-TPS79730DCKRG4; Eco-Plan: Green (RoHS & no Sb/Br); Vout Adj(Max)(V): 3; Vout Adj(Min)(V): 3; Mounting Technology: Surface Mount; Code_JEDEC: MO-203; ComponentLink1Description: Manufacturer URL; ComponentLink1URL: http://www.ti.com/; ComponentLink2Description: Datasheet; ComponentLink2URL: http://www.ti.com/general/docs/lit/getliterature.tsp?genericPartNumber=TPS79730&fileType=pdf; ComponentLink3Description: Package Specification; ComponentLink3URL: http://www.ti.com/litv/pdf/mpds025f
footprint TI-DCK5_V (SOT23, 5-Leads, Body 2x1.25mm, Pitch 0.65mm)
pins: 1 PG (hiz) "The PG terminal for the fixed voltage option devices is an open drain, active-high output that indicates the status of VO (output of the LDO). When VO exceeds approximately 90% of the regulated voltage, PG goes to a high (See Datasheet)", 2 GND (power) "Ground", 3 NC "No connection", 4 IN (power) "The IN terminal is the power supply input to the device.", 5 OUT (power) "The OUT terminal provides the regulated output voltage of the device."

## TPS79730DCKT
designator U?
Single Output LDO, 50 mA, Fixed 3 V Output, 1.8 to 5.5 V Input, with Low IQ, 5-pin SC70 (DCK), -40 to 85 degC, Green (RoHS & no Sb/Br); Manufacturer: Texas Instruments; PartNumber: TPS79730DCKT; Accuracy(%): 4; Fixed Output Options(V): 3; Iout(Max)(A): 0.05; Iq(Typ)(mA): 0.001; Power Good: TRUE; Rating: Catalog; SubFamily: Single Channel LDO; Vdo(Typ)(mV): 110; Vin(Max)(V): 5.5; Vin(Min)(V): 1.8; DatasheetVersion: SLVS332H; PackageVersion: 4093553-3/G; PackageReference: DCK5; PackageDescription: 5-Pin Plastic Small-Outline, Body 2 x 1.25 mm, Pitch 0.65 mm; Supplier 1: Digi-Key; Supplier Part Number 1: 296-27111-2-ND; Supplier 2: Digi-Key; Supplier Part Number 2: 296-27111-1-ND; Supplier 3: Digi-Key; Supplier Part Number 3: 296-27111-6-ND; Supplier 4: Farnell; Supplier Part Number 4: 1135378; Supplier 5: Farnell; Supplier Part Number 5: 1135378RL; Supplier 6: Newark; Supplier Part Number 6: 93K0945; Supplier 7: Newark; Supplier Part Number 7: 77C1375; Supplier 8: Mouser; Supplier Part Number 8: 595-TPS79730DCKT; Eco-Plan: Green (RoHS & no Sb/Br); Vout Adj(Max)(V): 3; Vout Adj(Min)(V): 3; Mounting Technology: Surface Mount; Code_JEDEC: MO-203; ComponentLink1Description: Manufacturer URL; ComponentLink1URL: http://www.ti.com/; ComponentLink2Description: Datasheet; ComponentLink2URL: http://www.ti.com/general/docs/lit/getliterature.tsp?genericPartNumber=TPS79730&fileType=pdf; ComponentLink3Description: Package Specification; ComponentLink3URL: http://www.ti.com/litv/pdf/mpds025f
footprint TI-DCK5_V (SOT23, 5-Leads, Body 2x1.25mm, Pitch 0.65mm)
pins: 1 PG (hiz) "The PG terminal for the fixed voltage option devices is an open drain, active-high output that indicates the status of VO (output of the LDO). When VO exceeds approximately 90% of the regulated voltage, PG goes to a high (See Datasheet)", 2 GND (power) "Ground", 3 NC "No connection", 4 IN (power) "The IN terminal is the power supply input to the device.", 5 OUT (power) "The OUT terminal provides the regulated output voltage of the device."

## TPS79730DCKTG4
designator U?
Single Output LDO, 50 mA, Fixed 3 V Output, 1.8 to 5.5 V Input, with Low IQ, 5-pin SC70 (DCK), -40 to 85 degC, Green (RoHS & no Sb/Br); Manufacturer: Texas Instruments; PartNumber: TPS79730DCKTG4; Accuracy(%): 4; Fixed Output Options(V): 3; Iout(Max)(A): 0.05; Iq(Typ)(mA): 0.001; Power Good: TRUE; Rating: Catalog; SubFamily: Single Channel LDO; Vdo(Typ)(mV): 110; Vin(Max)(V): 5.5; Vin(Min)(V): 1.8; DatasheetVersion: SLVS332H; PackageVersion: 4093553-3/G; PackageReference: DCK5; PackageDescription: 5-Pin Plastic Small-Outline, Body 2 x 1.25 mm, Pitch 0.65 mm; Supplier 1: Digi-Key; Supplier Part Number 1: TPS79730DCKTG4-ND; Supplier 2: Newark; Supplier Part Number 2: 58K7017; Supplier 3: Mouser; Supplier Part Number 3: 595-TPS79730DCKTG4; Eco-Plan: Green (RoHS & no Sb/Br); Vout Adj(Max)(V): 3; Vout Adj(Min)(V): 3; Mounting Technology: Surface Mount; Code_JEDEC: MO-203; ComponentLink1Description: Manufacturer URL; ComponentLink1URL: http://www.ti.com/; ComponentLink2Description: Datasheet; ComponentLink2URL: http://www.ti.com/general/docs/lit/getliterature.tsp?genericPartNumber=TPS79730&fileType=pdf; ComponentLink3Description: Package Specification; ComponentLink3URL: http://www.ti.com/litv/pdf/mpds025f
footprint TI-DCK5_V (SOT23, 5-Leads, Body 2x1.25mm, Pitch 0.65mm)
pins: 1 PG (hiz) "The PG terminal for the fixed voltage option devices is an open drain, active-high output that indicates the status of VO (output of the LDO). When VO exceeds approximately 90% of the regulated voltage, PG goes to a high (See Datasheet)", 2 GND (power) "Ground", 3 NC "No connection", 4 IN (power) "The IN terminal is the power supply input to the device.", 5 OUT (power) "The OUT terminal provides the regulated output voltage of the device."